# Altium integrated library Linear Technology Operational Amplifiers (LT2000-LT6000).IntLib: 1710 symbols (part 54 of 75)
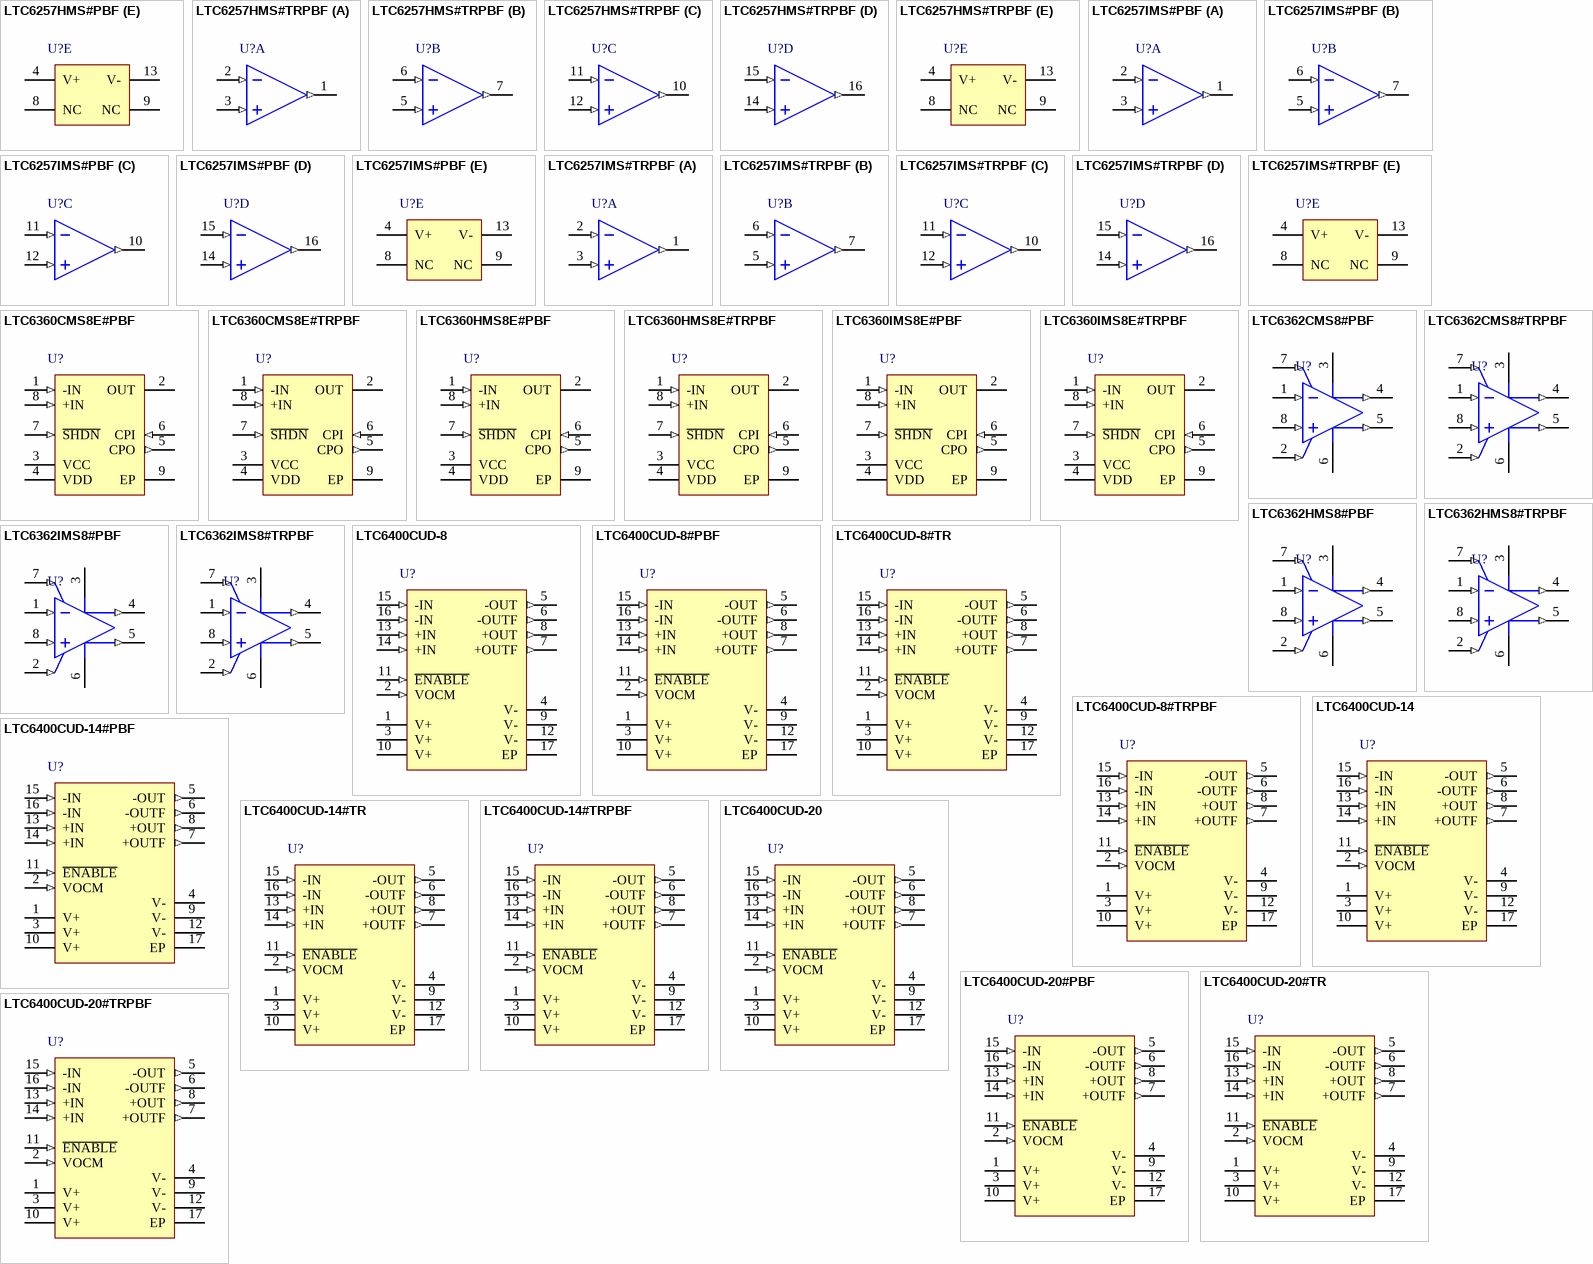
[diagram p133: symbols LTC6257HMS#PBF to LTC6400CUD-20#TRPBF]

## LTC6257HMS#TRPBF
designator U?
Quad Channel, Power Efficient Operational Amplifier, RRIO, 6.5 MHz Typical GBW, 1.8 V/us Typical SR, 1.8 to 5.25 V, 16-Pin SOP (MS16), High Temperature / Automotive, Pb-Free, Reel; Linear Technology Part Number: LTC6257; Manufacturer: Linear Technology; PartNumber: LTC6257HMS#TRPBF; Channels (#): 4; GBW (MHz) Typical: 6.5; Is (mA) Typical: 0.065; SR (V/us) Typical: 1.8; Vos (mV) Typical: 0.1; Vs Max (V): 5.25; DatasheetVersion: Rev. B; PackageVersion: Rev Ø; PackageReference: LT-MS-16; PackageDescription: 16-Lead Plastic MSOP, Body 4.04 x 3.00 mm, Pitch 0.50 mm; Supplier 1: Digi-Key; Supplier Part Number 1: LTC6257HMS#TRPBF-ND; Packing: Reel; RoHS: Pb-Free; Type: VFB; Vs Min (V): 1.8; Mounting Technology: Surface Mount; ComponentLink1Description: Manufacturer URL; ComponentLink1URL: http://www.linear.com/; ComponentLink2Description: Datasheet; ComponentLink2URL: http://cds.linear.com/docs/en/datasheet/625567fb.pdf; ComponentLink3Description: Package Specification; ComponentLink3URL: http://cds.linear.com/docs/en/packaging/MSOP_16_05-08-1669.pdf
footprint LT-MS-16_N (SOP, 16-Leads, Body 4.04x3.00mm, Pitch 0.50mm, IPC Medium Density)
footprint LT-MS-16_L (SOP, 16-Leads, Body 4.04x3.00mm, Pitch 0.50mm, IPC High Density)
footprint LT-MS-16_M (SOP, 16-Leads, Body 4.04x3.00mm, Pitch 0.50mm, IPC Low Density)
part A pins: 1 OUT A (out), 2 IN- A (in), 3 IN+ A (in)
part B pins: 5 IN+ B (in), 6 IN- B (in), 7 OUT B (out)
part C pins: 10 OUT C (out), 11 IN- C (in), 12 IN+ C (in)
part D pins: 14 IN+ D (in), 15 IN- D (in), 16 OUT D (out)
part E pins: 4 V+ (power), 8 NC, 9 NC, 13 V- (power)

## LTC6257IMS#PBF
designator U?
Quad Channel, Power Efficient Operational Amplifier, RRIO, 6.5 MHz Typical GBW, 1.8 V/us Typical SR, 1.8 to 5.25 V, 16-Pin SOP (MS16), Industrial, Pb-Free; Linear Technology Part Number: LTC6257; Manufacturer: Linear Technology; PartNumber: LTC6257IMS#PBF; Channels (#): 4; GBW (MHz) Typical: 6.5; Is (mA) Typical: 0.065; SR (V/us) Typical: 1.8; Vos (mV) Typical: 0.1; Vs Max (V): 5.25; DatasheetVersion: Rev. B; PackageVersion: Rev Ø; PackageReference: LT-MS-16; PackageDescription: 16-Lead Plastic MSOP, Body 4.04 x 3.00 mm, Pitch 0.50 mm; Supplier 1: Digi-Key; Supplier Part Number 1: LTC6257IMS#PBF-ND; RoHS: Pb-Free; Type: VFB; Vs Min (V): 1.8; Mounting Technology: Surface Mount; ComponentLink1Description: Manufacturer URL; ComponentLink1URL: http://www.linear.com/; ComponentLink2Description: Datasheet; ComponentLink2URL: http://cds.linear.com/docs/en/datasheet/625567fb.pdf; ComponentLink3Description: Package Specification; ComponentLink3URL: http://cds.linear.com/docs/en/packaging/MSOP_16_05-08-1669.pdf
footprint LT-MS-16_N (SOP, 16-Leads, Body 4.04x3.00mm, Pitch 0.50mm, IPC Medium Density)
footprint LT-MS-16_L (SOP, 16-Leads, Body 4.04x3.00mm, Pitch 0.50mm, IPC High Density)
footprint LT-MS-16_M (SOP, 16-Leads, Body 4.04x3.00mm, Pitch 0.50mm, IPC Low Density)
part A pins: 1 OUT A (out), 2 IN- A (in), 3 IN+ A (in)
part B pins: 5 IN+ B (in), 6 IN- B (in), 7 OUT B (out)
part C pins: 10 OUT C (out), 11 IN- C (in), 12 IN+ C (in)
part D pins: 14 IN+ D (in), 15 IN- D (in), 16 OUT D (out)
part E pins: 4 V+ (power), 8 NC, 9 NC, 13 V- (power)

## LTC6257IMS#TRPBF
designator U?
Quad Channel, Power Efficient Operational Amplifier, RRIO, 6.5 MHz Typical GBW, 1.8 V/us Typical SR, 1.8 to 5.25 V, 16-Pin SOP (MS16), Industrial, Pb-Free, Reel; Linear Technology Part Number: LTC6257; Manufacturer: Linear Technology; PartNumber: LTC6257IMS#TRPBF; Channels (#): 4; GBW (MHz) Typical: 6.5; Is (mA) Typical: 0.065; SR (V/us) Typical: 1.8; Vos (mV) Typical: 0.1; Vs Max (V): 5.25; DatasheetVersion: Rev. B; PackageVersion: Rev Ø; PackageReference: LT-MS-16; PackageDescription: 16-Lead Plastic MSOP, Body 4.04 x 3.00 mm, Pitch 0.50 mm; Supplier 1: Digi-Key; Supplier Part Number 1: LTC6257IMS#TRPBF-ND; Supplier 2: Newark; Supplier Part Number 2: 78R8404; Packing: Reel; RoHS: Pb-Free; Type: VFB; Vs Min (V): 1.8; Mounting Technology: Surface Mount; ComponentLink1Description: Manufacturer URL; ComponentLink1URL: http://www.linear.com/; ComponentLink2Description: Datasheet; ComponentLink2URL: http://cds.linear.com/docs/en/datasheet/625567fb.pdf; ComponentLink3Description: Package Specification; ComponentLink3URL: http://cds.linear.com/docs/en/packaging/MSOP_16_05-08-1669.pdf
footprint LT-MS-16_N (SOP, 16-Leads, Body 4.04x3.00mm, Pitch 0.50mm, IPC Medium Density)
footprint LT-MS-16_L (SOP, 16-Leads, Body 4.04x3.00mm, Pitch 0.50mm, IPC High Density)
footprint LT-MS-16_M (SOP, 16-Leads, Body 4.04x3.00mm, Pitch 0.50mm, IPC Low Density)
part A pins: 1 OUT A (out), 2 IN- A (in), 3 IN+ A (in)
part B pins: 5 IN+ B (in), 6 IN- B (in), 7 OUT B (out)
part C pins: 10 OUT C (out), 11 IN- C (in), 12 IN+ C (in)
part D pins: 14 IN+ D (in), 15 IN- D (in), 16 OUT D (out)
part E pins: 4 V+ (power), 8 NC, 9 NC, 13 V- (power)

## LTC6360CMS8E#PBF
designator U?
Single Channel, Very Low Noise Single-Ended SAR ADC Driver with True Zero Output, 1000 MHz Typical GBW, 135 V/us Typical SR, 5.25 to 4.75 V, 8-Pin SOP (MS8E-8), Commercial, Pb-Free; Linear Technology Part Number: LTC6360; Manufacturer: Linear Technology; PartNumber: LTC6360CMS8E#PBF; Channels (#): 1; GBW (MHz) Typical: 1000; Is (mA) Typical: 13.6; SR (V/us) Typical: 135; Vos (mV) Typical: 30; Vs Max (V): 4.75; Vs Min (V): 5.25; PackageVersion: Rev J; PackageReference: LT-MS8E-8-EDP; PackageDescription: 8-Lead Plastic MSOP, Body 3.00 x 3.00 mm. Pitch 0.65 mm; Supplier 1: Digi-Key; Supplier Part Number 1: LTC6360CMS8E#PBF-ND; Supplier 2: Farnell; Supplier Part Number 2: 2033981; Supplier 3: Newark; Supplier Part Number 3: 59T5738; RoHS: Pb-Free; Type: VFB; Mounting Technology: Surface Mount; ComponentLink1Description: Manufacturer URL; ComponentLink1URL: http://www.linear.com/; ComponentLink2Description: Datasheet; ComponentLink2URL: http://cds.linear.com/docs/en/datasheet/6360f.pdf; ComponentLink3Description: Package Specification; ComponentLink3URL: http://cds.linear.com/docs/en/packaging/05081662_J_MS8E.pdf
footprint LT-MS8E-8-EDP_N (SOP, 8-Leads, Body 3x3mm, Pitch 0.65mm, Thermal Pad 1.88x1.68mm, IPC Medium Density)
footprint LT-MS8E-8-EDP_L (SOP, 8-Leads, Body 3x3mm, Pitch 0.65mm, Thermal Pad 1.88x1.68mm, IPC High Density)
footprint LT-MS8E-8-EDP_M (SOP, 8-Leads, Body 3x3mm, Pitch 0.65mm, Thermal Pad 1.88x1.68mm, IPC Low Density)
pins: 1 -IN (in) "Inverting Amplifier Input.", 2 OUT (oc) "Output of Amplifier", 3 VCC (power) "Analog Power Supply. Normally connected to a 5V supply.", 4 VDD (power) "Digital Power Supply. Normally connected to VCC", 5 CPO (out) "Output of Charge Pump. This pin is internally biased at -0.6V below GND", 6 CPI (in) "Input for Amplifier Negative Rail. Normally connected to CPO", 7 ~{SHDN} (in) "Shutdown Pin. If tied high or left floating, the part is enabled. If tied low, the part is disabled and draws less than 350uA of supply current", 8 +IN (in) "Noninverting Amplifier Input. Provides a high impedance input", 9 EP (power) "Ground Pin. Normally connected to ground."

## LTC6360CMS8E#TRPBF
designator U?
Single Channel, Very Low Noise Single-Ended SAR ADC Driver with True Zero Output, 1000 MHz Typical GBW, 135 V/us Typical SR, 5.25 to 4.75 V, 8-Pin SOP (MS8E-8), Commercial, Pb-Free, Reel; Linear Technology Part Number: LTC6360; Manufacturer: Linear Technology; PartNumber: LTC6360CMS8E#TRPBF; Channels (#): 1; GBW (MHz) Typical: 1000; Is (mA) Typical: 13.6; SR (V/us) Typical: 135; Vos (mV) Typical: 30; Vs Max (V): 4.75; Vs Min (V): 5.25; PackageVersion: Rev J; PackageReference: LT-MS8E-8-EDP; PackageDescription: 8-Lead Plastic MSOP, Body 3.00 x 3.00 mm. Pitch 0.65 mm; Supplier 1: Digi-Key; Supplier Part Number 1: LTC6360CMS8E#TRPBF-ND; Supplier 2: Newark; Supplier Part Number 2: 59T5739; Packing: Reel; RoHS: Pb-Free; Type: VFB; Mounting Technology: Surface Mount; ComponentLink1Description: Manufacturer URL; ComponentLink1URL: http://www.linear.com/; ComponentLink2Description: Datasheet; ComponentLink2URL: http://cds.linear.com/docs/en/datasheet/6360f.pdf; ComponentLink3Description: Package Specification; ComponentLink3URL: http://cds.linear.com/docs/en/packaging/05081662_J_MS8E.pdf
footprint LT-MS8E-8-EDP_N (SOP, 8-Leads, Body 3x3mm, Pitch 0.65mm, Thermal Pad 1.88x1.68mm, IPC Medium Density)
footprint LT-MS8E-8-EDP_L (SOP, 8-Leads, Body 3x3mm, Pitch 0.65mm, Thermal Pad 1.88x1.68mm, IPC High Density)
footprint LT-MS8E-8-EDP_M (SOP, 8-Leads, Body 3x3mm, Pitch 0.65mm, Thermal Pad 1.88x1.68mm, IPC Low Density)
pins: 1 -IN (in) "Inverting Amplifier Input.", 2 OUT (oc) "Output of Amplifier", 3 VCC (power) "Analog Power Supply. Normally connected to a 5V supply.", 4 VDD (power) "Digital Power Supply. Normally connected to VCC", 5 CPO (out) "Output of Charge Pump. This pin is internally biased at -0.6V below GND", 6 CPI (in) "Input for Amplifier Negative Rail. Normally connected to CPO", 7 ~{SHDN} (in) "Shutdown Pin. If tied high or left floating, the part is enabled. If tied low, the part is disabled and draws less than 350uA of supply current", 8 +IN (in) "Noninverting Amplifier Input. Provides a high impedance input", 9 EP (power) "Ground Pin. Normally connected to ground."

## LTC6360HMS8E#PBF
designator U?
Single Channel, Very Low Noise Single-Ended SAR ADC Driver with True Zero Output, 1000 MHz Typical GBW, 135 V/us Typical SR, 5.25 to 4.75 V, 8-Pin SOP (MS8E-8), High Temperature / Automotive, Pb-Free; Linear Technology Part Number: LTC6360; Manufacturer: Linear Technology; PartNumber: LTC6360HMS8E#PBF; Channels (#): 1; GBW (MHz) Typical: 1000; Is (mA) Typical: 13.6; SR (V/us) Typical: 135; Vos (mV) Typical: 30; Vs Max (V): 4.75; Vs Min (V): 5.25; PackageVersion: Rev J; PackageReference: LT-MS8E-8-EDP; PackageDescription: 8-Lead Plastic MSOP, Body 3.00 x 3.00 mm. Pitch 0.65 mm; Supplier 1: Digi-Key; Supplier Part Number 1: LTC6360HMS8E#PBF-ND; Supplier 2: Newark; Supplier Part Number 2: 59T5742; RoHS: Pb-Free; Type: VFB; Mounting Technology: Surface Mount; ComponentLink1Description: Manufacturer URL; ComponentLink1URL: http://www.linear.com/; ComponentLink2Description: Datasheet; ComponentLink2URL: http://cds.linear.com/docs/en/datasheet/6360f.pdf; ComponentLink3Description: Package Specification; ComponentLink3URL: http://cds.linear.com/docs/en/packaging/05081662_J_MS8E.pdf
footprint LT-MS8E-8-EDP_N (SOP, 8-Leads, Body 3x3mm, Pitch 0.65mm, Thermal Pad 1.88x1.68mm, IPC Medium Density)
footprint LT-MS8E-8-EDP_L (SOP, 8-Leads, Body 3x3mm, Pitch 0.65mm, Thermal Pad 1.88x1.68mm, IPC High Density)
footprint LT-MS8E-8-EDP_M (SOP, 8-Leads, Body 3x3mm, Pitch 0.65mm, Thermal Pad 1.88x1.68mm, IPC Low Density)
pins: 1 -IN (in) "Inverting Amplifier Input.", 2 OUT (oc) "Output of Amplifier", 3 VCC (power) "Analog Power Supply. Normally connected to a 5V supply.", 4 VDD (power) "Digital Power Supply. Normally connected to VCC", 5 CPO (out) "Output of Charge Pump. This pin is internally biased at -0.6V below GND", 6 CPI (in) "Input for Amplifier Negative Rail. Normally connected to CPO", 7 ~{SHDN} (in) "Shutdown Pin. If tied high or left floating, the part is enabled. If tied low, the part is disabled and draws less than 350uA of supply current", 8 +IN (in) "Noninverting Amplifier Input. Provides a high impedance input", 9 EP (power) "Ground Pin. Normally connected to ground."

## LTC6360HMS8E#TRPBF
designator U?
Single Channel, Very Low Noise Single-Ended SAR ADC Driver with True Zero Output, 1000 MHz Typical GBW, 135 V/us Typical SR, 5.25 to 4.75 V, 8-Pin SOP (MS8E-8), High Temperature / Automotive, Pb-Free, Reel; Linear Technology Part Number: LTC6360; Manufacturer: Linear Technology; PartNumber: LTC6360HMS8E#TRPBF; Channels (#): 1; GBW (MHz) Typical: 1000; Is (mA) Typical: 13.6; SR (V/us) Typical: 135; Vos (mV) Typical: 30; Vs Max (V): 4.75; Vs Min (V): 5.25; PackageVersion: Rev J; PackageReference: LT-MS8E-8-EDP; PackageDescription: 8-Lead Plastic MSOP, Body 3.00 x 3.00 mm. Pitch 0.65 mm; Supplier 1: Digi-Key; Supplier Part Number 1: LTC6360HMS8E#TRPBF-ND; Supplier 2: Newark; Supplier Part Number 2: 59T5743; Packing: Reel; RoHS: Pb-Free; Type: VFB; Mounting Technology: Surface Mount; ComponentLink1Description: Manufacturer URL; ComponentLink1URL: http://www.linear.com/; ComponentLink2Description: Datasheet; ComponentLink2URL: http://cds.linear.com/docs/en/datasheet/6360f.pdf; ComponentLink3Description: Package Specification; ComponentLink3URL: http://cds.linear.com/docs/en/packaging/05081662_J_MS8E.pdf
footprint LT-MS8E-8-EDP_N (SOP, 8-Leads, Body 3x3mm, Pitch 0.65mm, Thermal Pad 1.88x1.68mm, IPC Medium Density)
footprint LT-MS8E-8-EDP_L (SOP, 8-Leads, Body 3x3mm, Pitch 0.65mm, Thermal Pad 1.88x1.68mm, IPC High Density)
footprint LT-MS8E-8-EDP_M (SOP, 8-Leads, Body 3x3mm, Pitch 0.65mm, Thermal Pad 1.88x1.68mm, IPC Low Density)
pins: 1 -IN (in) "Inverting Amplifier Input.", 2 OUT (oc) "Output of Amplifier", 3 VCC (power) "Analog Power Supply. Normally connected to a 5V supply.", 4 VDD (power) "Digital Power Supply. Normally connected to VCC", 5 CPO (out) "Output of Charge Pump. This pin is internally biased at -0.6V below GND", 6 CPI (in) "Input for Amplifier Negative Rail. Normally connected to CPO", 7 ~{SHDN} (in) "Shutdown Pin. If tied high or left floating, the part is enabled. If tied low, the part is disabled and draws less than 350uA of supply current", 8 +IN (in) "Noninverting Amplifier Input. Provides a high impedance input", 9 EP (power) "Ground Pin. Normally connected to ground."

## LTC6360IMS8E#PBF
designator U?
Single Channel, Very Low Noise Single-Ended SAR ADC Driver with True Zero Output, 1000 MHz Typical GBW, 135 V/us Typical SR, 5.25 to 4.75 V, 8-Pin SOP (MS8E-8), Industrial, Pb-Free; Linear Technology Part Number: LTC6360; Manufacturer: Linear Technology; PartNumber: LTC6360IMS8E#PBF; Channels (#): 1; GBW (MHz) Typical: 1000; Is (mA) Typical: 13.6; SR (V/us) Typical: 135; Vos (mV) Typical: 30; Vs Max (V): 4.75; Vs Min (V): 5.25; PackageVersion: Rev J; PackageReference: LT-MS8E-8-EDP; PackageDescription: 8-Lead Plastic MSOP, Body 3.00 x 3.00 mm. Pitch 0.65 mm; Supplier 1: Digi-Key; Supplier Part Number 1: LTC6360IMS8E#PBF-ND; Supplier 2: Newark; Supplier Part Number 2: 59T5746; RoHS: Pb-Free; Type: VFB; Mounting Technology: Surface Mount; ComponentLink1Description: Manufacturer URL; ComponentLink1URL: http://www.linear.com/; ComponentLink2Description: Datasheet; ComponentLink2URL: http://cds.linear.com/docs/en/datasheet/6360f.pdf; ComponentLink3Description: Package Specification; ComponentLink3URL: http://cds.linear.com/docs/en/packaging/05081662_J_MS8E.pdf
footprint LT-MS8E-8-EDP_N (SOP, 8-Leads, Body 3x3mm, Pitch 0.65mm, Thermal Pad 1.88x1.68mm, IPC Medium Density)
footprint LT-MS8E-8-EDP_L (SOP, 8-Leads, Body 3x3mm, Pitch 0.65mm, Thermal Pad 1.88x1.68mm, IPC High Density)
footprint LT-MS8E-8-EDP_M (SOP, 8-Leads, Body 3x3mm, Pitch 0.65mm, Thermal Pad 1.88x1.68mm, IPC Low Density)
pins: 1 -IN (in) "Inverting Amplifier Input.", 2 OUT (oc) "Output of Amplifier", 3 VCC (power) "Analog Power Supply. Normally connected to a 5V supply.", 4 VDD (power) "Digital Power Supply. Normally connected to VCC", 5 CPO (out) "Output of Charge Pump. This pin is internally biased at -0.6V below GND", 6 CPI (in) "Input for Amplifier Negative Rail. Normally connected to CPO", 7 ~{SHDN} (in) "Shutdown Pin. If tied high or left floating, the part is enabled. If tied low, the part is disabled and draws less than 350uA of supply current", 8 +IN (in) "Noninverting Amplifier Input. Provides a high impedance input", 9 EP (power) "Ground Pin. Normally connected to ground."

## LTC6360IMS8E#TRPBF
designator U?
Single Channel, Very Low Noise Single-Ended SAR ADC Driver with True Zero Output, 1000 MHz Typical GBW, 135 V/us Typical SR, 5.25 to 4.75 V, 8-Pin SOP (MS8E-8), Industrial, Pb-Free, Reel; Linear Technology Part Number: LTC6360; Manufacturer: Linear Technology; PartNumber: LTC6360IMS8E#TRPBF; Channels (#): 1; GBW (MHz) Typical: 1000; Is (mA) Typical: 13.6; SR (V/us) Typical: 135; Vos (mV) Typical: 30; Vs Max (V): 4.75; Vs Min (V): 5.25; PackageVersion: Rev J; PackageReference: LT-MS8E-8-EDP; PackageDescription: 8-Lead Plastic MSOP, Body 3.00 x 3.00 mm. Pitch 0.65 mm; Supplier 1: Digi-Key; Supplier Part Number 1: LTC6360IMS8E#TRPBF-ND; Supplier 2: Newark; Supplier Part Number 2: 59T5747; Packing: Reel; RoHS: Pb-Free; Type: VFB; Mounting Technology: Surface Mount; ComponentLink1Description: Manufacturer URL; ComponentLink1URL: http://www.linear.com/; ComponentLink2Description: Datasheet; ComponentLink2URL: http://cds.linear.com/docs/en/datasheet/6360f.pdf; ComponentLink3Description: Package Specification; ComponentLink3URL: http://cds.linear.com/docs/en/packaging/05081662_J_MS8E.pdf
footprint LT-MS8E-8-EDP_N (SOP, 8-Leads, Body 3x3mm, Pitch 0.65mm, Thermal Pad 1.88x1.68mm, IPC Medium Density)
footprint LT-MS8E-8-EDP_L (SOP, 8-Leads, Body 3x3mm, Pitch 0.65mm, Thermal Pad 1.88x1.68mm, IPC High Density)
footprint LT-MS8E-8-EDP_M (SOP, 8-Leads, Body 3x3mm, Pitch 0.65mm, Thermal Pad 1.88x1.68mm, IPC Low Density)
pins: 1 -IN (in) "Inverting Amplifier Input.", 2 OUT (oc) "Output of Amplifier", 3 VCC (power) "Analog Power Supply. Normally connected to a 5V supply.", 4 VDD (power) "Digital Power Supply. Normally connected to VCC", 5 CPO (out) "Output of Charge Pump. This pin is internally biased at -0.6V below GND", 6 CPI (in) "Input for Amplifier Negative Rail. Normally connected to CPO", 7 ~{SHDN} (in) "Shutdown Pin. If tied high or left floating, the part is enabled. If tied low, the part is disabled and draws less than 350uA of supply current", 8 +IN (in) "Noninverting Amplifier Input. Provides a high impedance input", 9 EP (power) "Ground Pin. Normally connected to ground."

## LTC6362CMS8#PBF
designator U?
Single Channel, Precision, Low Power Differential Operational Amplifier / SAR ADC Driver, RRIO, 180 MHz Typical GBW, 45 V/us Typical SR, 2.8 to 5.25 V, 8-Pin SOP (MS8-8), Commercial, Pb-Free; Linear Technology Part Number: LTC6362; Manufacturer: Linear Technology; PartNumber: LTC6362CMS8#PBF; Channels (#): 1; GBW (MHz) Typical: 180; Is (mA) Typical: 0.9; SR (V/us) Typical: 45; Vos (mV) Typical: 0.05; Vs Max (V): 5.25; Vs Min (V): 2.8; DatasheetVersion: Rev. A; PackageVersion: Rev G; PackageReference: LT-MS8-8; PackageDescription: 8-Lead Plastic Small Outline, Body 3.9 x 4.9 mm, Pitch 1.27 mm; Supplier 1: Digi-Key; Supplier Part Number 1: LTC6362CMS8#PBF-ND; Supplier 2: Farnell; Supplier Part Number 2: 2097967; Supplier 3: Newark; Supplier Part Number 3: 93T2025; RoHS: Pb-Free; Type: DIFF; Mounting Technology: Surface Mount; ComponentLink1Description: Manufacturer URL; ComponentLink1URL: http://www.linear.com/; ComponentLink2Description: Datasheet; ComponentLink2URL: http://cds.linear.com/docs/en/datasheet/6362fa.pdf; ComponentLink3Description: Package Specification; ComponentLink3URL: http://cds.linear.com/docs/en/packaging/05081610_G_SO8.pdf
footprint LT-MS8-8_N (SOP, 8-Leads, Body 3x3mm, Pitch 0.65mm, IPC Medium Density)
footprint LT-MS8-8_L (SOP, 8-Leads, Body 3x3mm, Pitch 0.65mm, IPC High Density)
footprint LT-MS8-8_M (SOP, 8-Leads, Body 3x3mm, Pitch 0.65mm, IPC Low Density)
pins: 1 -IN (in) "Inverting Input of Amplifier. Valid input range is from V- to V+.", 2 VOCM (in) "Output Common Mode Reference Voltage. The voltage on this pin sets the output common mode voltage level. If left floating, an internal resistor divider develops a default voltage of 2.5V with a 5V supply.", 3 V+ (power) "Positive Power Supply. Operational supply range is 2.8V to 5.25V when V- = 0V", 4 +OUT (out) "Positive Output Pin. Output capable of swinging rail-to-rail.", 5 -OUT (out) "Negative Output Pin. Output capable of swinging rail-to-rail.", 6 V- (power) "Negative Power Supply, Typically 0V. Negative supply can be negative as long as 2.8V =< (V+ - V-) =< 5.25V still holds.", 7 ~{SHDN} (in) "When S\H\D\N\ is floating or directly tied to V+ the LTC6362 is in the normal (active) operating mode. When the S\H\D\N\ pin is connected to V-, the part is disabled and draws approximately 70uA of supply current.", 8 +IN (in) "Noninverting Input of Amplifier. Valid input range is from V- to V+."

## LTC6362CMS8#TRPBF
designator U?
Single Channel, Precision, Low Power Differential Operational Amplifier / SAR ADC Driver, RRIO, 180 MHz Typical GBW, 45 V/us Typical SR, 2.8 to 5.25 V, 8-Pin SOP (MS8-8), Commercial, Pb-Free, Reel; Linear Technology Part Number: LTC6362; Manufacturer: Linear Technology; PartNumber: LTC6362CMS8#TRPBF; Channels (#): 1; GBW (MHz) Typical: 180; Is (mA) Typical: 0.9; SR (V/us) Typical: 45; Vos (mV) Typical: 0.05; Vs Max (V): 5.25; Vs Min (V): 2.8; DatasheetVersion: Rev. A; PackageVersion: Rev G; PackageReference: LT-MS8-8; PackageDescription: 8-Lead Plastic Small Outline, Body 3.9 x 4.9 mm, Pitch 1.27 mm; Supplier 1: Digi-Key; Supplier Part Number 1: LTC6362CMS8#TRPBF-ND; Supplier 2: Newark; Supplier Part Number 2: 94T1324; Packing: Reel; RoHS: Pb-Free; Type: DIFF; Mounting Technology: Surface Mount; ComponentLink1Description: Manufacturer URL; ComponentLink1URL: http://www.linear.com/; ComponentLink2Description: Datasheet; ComponentLink2URL: http://cds.linear.com/docs/en/datasheet/6362fa.pdf; ComponentLink3Description: Package Specification; ComponentLink3URL: http://cds.linear.com/docs/en/packaging/05081610_G_SO8.pdf
footprint LT-MS8-8_N (SOP, 8-Leads, Body 3x3mm, Pitch 0.65mm, IPC Medium Density)
footprint LT-MS8-8_L (SOP, 8-Leads, Body 3x3mm, Pitch 0.65mm, IPC High Density)
footprint LT-MS8-8_M (SOP, 8-Leads, Body 3x3mm, Pitch 0.65mm, IPC Low Density)
pins: 1 -IN (in) "Inverting Input of Amplifier. Valid input range is from V- to V+.", 2 VOCM (in) "Output Common Mode Reference Voltage. The voltage on this pin sets the output common mode voltage level. If left floating, an internal resistor divider develops a default voltage of 2.5V with a 5V supply.", 3 V+ (power) "Positive Power Supply. Operational supply range is 2.8V to 5.25V when V- = 0V", 4 +OUT (out) "Positive Output Pin. Output capable of swinging rail-to-rail.", 5 -OUT (out) "Negative Output Pin. Output capable of swinging rail-to-rail.", 6 V- (power) "Negative Power Supply, Typically 0V. Negative supply can be negative as long as 2.8V =< (V+ - V-) =< 5.25V still holds.", 7 ~{SHDN} (in) "When S\H\D\N\ is floating or directly tied to V+ the LTC6362 is in the normal (active) operating mode. When the S\H\D\N\ pin is connected to V-, the part is disabled and draws approximately 70uA of supply current.", 8 +IN (in) "Noninverting Input of Amplifier. Valid input range is from V- to V+."

## LTC6362HMS8#PBF
designator U?
Single Channel, Precision, Low Power Differential Operational Amplifier / SAR ADC Driver, RRIO, 180 MHz Typical GBW, 45 V/us Typical SR, 2.8 to 5.25 V, 8-Pin SOP (MS8-8), High Temperature / Automotive, Pb-Free; Linear Technology Part Number: LTC6362; Manufacturer: Linear Technology; PartNumber: LTC6362HMS8#PBF; Channels (#): 1; GBW (MHz) Typical: 180; Is (mA) Typical: 0.9; SR (V/us) Typical: 45; Vos (mV) Typical: 0.05; Vs Max (V): 5.25; Vs Min (V): 2.8; DatasheetVersion: Rev. A; PackageVersion: Rev G; PackageReference: LT-MS8-8; PackageDescription: 8-Lead Plastic Small Outline, Body 3.9 x 4.9 mm, Pitch 1.27 mm; Supplier 1: Digi-Key; Supplier Part Number 1: LTC6362HMS8#PBF-ND; Supplier 2: Farnell; Supplier Part Number 2: 2097968; Supplier 3: Newark; Supplier Part Number 3: 93T2026; RoHS: Pb-Free; Type: DIFF; Mounting Technology: Surface Mount; ComponentLink1Description: Manufacturer URL; ComponentLink1URL: http://www.linear.com/; ComponentLink2Description: Datasheet; ComponentLink2URL: http://cds.linear.com/docs/en/datasheet/6362fa.pdf; ComponentLink3Description: Package Specification; ComponentLink3URL: http://cds.linear.com/docs/en/packaging/05081610_G_SO8.pdf
footprint LT-MS8-8_N (SOP, 8-Leads, Body 3x3mm, Pitch 0.65mm, IPC Medium Density)
footprint LT-MS8-8_L (SOP, 8-Leads, Body 3x3mm, Pitch 0.65mm, IPC High Density)
footprint LT-MS8-8_M (SOP, 8-Leads, Body 3x3mm, Pitch 0.65mm, IPC Low Density)
pins: 1 -IN (in) "Inverting Input of Amplifier. Valid input range is from V- to V+.", 2 VOCM (in) "Output Common Mode Reference Voltage. The voltage on this pin sets the output common mode voltage level. If left floating, an internal resistor divider develops a default voltage of 2.5V with a 5V supply.", 3 V+ (power) "Positive Power Supply. Operational supply range is 2.8V to 5.25V when V- = 0V", 4 +OUT (out) "Positive Output Pin. Output capable of swinging rail-to-rail.", 5 -OUT (out) "Negative Output Pin. Output capable of swinging rail-to-rail.", 6 V- (power) "Negative Power Supply, Typically 0V. Negative supply can be negative as long as 2.8V =< (V+ - V-) =< 5.25V still holds.", 7 ~{SHDN} (in) "When S\H\D\N\ is floating or directly tied to V+ the LTC6362 is in the normal (active) operating mode. When the S\H\D\N\ pin is connected to V-, the part is disabled and draws approximately 70uA of supply current.", 8 +IN (in) "Noninverting Input of Amplifier. Valid input range is from V- to V+."

## LTC6362HMS8#TRPBF
designator U?
Single Channel, Precision, Low Power Differential Operational Amplifier / SAR ADC Driver, RRIO, 180 MHz Typical GBW, 45 V/us Typical SR, 2.8 to 5.25 V, 8-Pin SOP (MS8-8), High Temperature / Automotive, Pb-Free, Reel; Linear Technology Part Number: LTC6362; Manufacturer: Linear Technology; PartNumber: LTC6362HMS8#TRPBF; Channels (#): 1; GBW (MHz) Typical: 180; Is (mA) Typical: 0.9; SR (V/us) Typical: 45; Vos (mV) Typical: 0.05; Vs Max (V): 5.25; Vs Min (V): 2.8; DatasheetVersion: Rev. A; PackageVersion: Rev G; PackageReference: LT-MS8-8; PackageDescription: 8-Lead Plastic Small Outline, Body 3.9 x 4.9 mm, Pitch 1.27 mm; Supplier 1: Digi-Key; Supplier Part Number 1: LTC6362HMS8#TRPBF-ND; Supplier 2: Newark; Supplier Part Number 2: 94T1325; Packing: Reel; RoHS: Pb-Free; Type: DIFF; Mounting Technology: Surface Mount; ComponentLink1Description: Manufacturer URL; ComponentLink1URL: http://www.linear.com/; ComponentLink2Description: Datasheet; ComponentLink2URL: http://cds.linear.com/docs/en/datasheet/6362fa.pdf; ComponentLink3Description: Package Specification; ComponentLink3URL: http://cds.linear.com/docs/en/packaging/05081610_G_SO8.pdf
footprint LT-MS8-8_N (SOP, 8-Leads, Body 3x3mm, Pitch 0.65mm, IPC Medium Density)
footprint LT-MS8-8_L (SOP, 8-Leads, Body 3x3mm, Pitch 0.65mm, IPC High Density)
footprint LT-MS8-8_M (SOP, 8-Leads, Body 3x3mm, Pitch 0.65mm, IPC Low Density)
pins: 1 -IN (in) "Inverting Input of Amplifier. Valid input range is from V- to V+.", 2 VOCM (in) "Output Common Mode Reference Voltage. The voltage on this pin sets the output common mode voltage level. If left floating, an internal resistor divider develops a default voltage of 2.5V with a 5V supply.", 3 V+ (power) "Positive Power Supply. Operational supply range is 2.8V to 5.25V when V- = 0V", 4 +OUT (out) "Positive Output Pin. Output capable of swinging rail-to-rail.", 5 -OUT (out) "Negative Output Pin. Output capable of swinging rail-to-rail.", 6 V- (power) "Negative Power Supply, Typically 0V. Negative supply can be negative as long as 2.8V =< (V+ - V-) =< 5.25V still holds.", 7 ~{SHDN} (in) "When S\H\D\N\ is floating or directly tied to V+ the LTC6362 is in the normal (active) operating mode. When the S\H\D\N\ pin is connected to V-, the part is disabled and draws approximately 70uA of supply current.", 8 +IN (in) "Noninverting Input of Amplifier. Valid input range is from V- to V+."

## LTC6362IMS8#PBF
designator U?
Single Channel, Precision, Low Power Differential Operational Amplifier / SAR ADC Driver, RRIO, 180 MHz Typical GBW, 45 V/us Typical SR, 2.8 to 5.25 V, 8-Pin SOP (MS8-8), Industrial, Pb-Free; Linear Technology Part Number: LTC6362; Manufacturer: Linear Technology; PartNumber: LTC6362IMS8#PBF; Channels (#): 1; GBW (MHz) Typical: 180; Is (mA) Typical: 0.9; SR (V/us) Typical: 45; Vos (mV) Typical: 0.05; Vs Max (V): 5.25; Vs Min (V): 2.8; DatasheetVersion: Rev. A; PackageVersion: Rev G; PackageReference: LT-MS8-8; PackageDescription: 8-Lead Plastic Small Outline, Body 3.9 x 4.9 mm, Pitch 1.27 mm; Supplier 1: Digi-Key; Supplier Part Number 1: LTC6362IMS8#PBF-ND; Supplier 2: Farnell; Supplier Part Number 2: 2097969; Supplier 3: Newark; Supplier Part Number 3: 93T2027; RoHS: Pb-Free; Type: DIFF; Mounting Technology: Surface Mount; ComponentLink1Description: Manufacturer URL; ComponentLink1URL: http://www.linear.com/; ComponentLink2Description: Datasheet; ComponentLink2URL: http://cds.linear.com/docs/en/datasheet/6362fa.pdf; ComponentLink3Description: Package Specification; ComponentLink3URL: http://cds.linear.com/docs/en/packaging/05081610_G_SO8.pdf
footprint LT-MS8-8_N (SOP, 8-Leads, Body 3x3mm, Pitch 0.65mm, IPC Medium Density)
footprint LT-MS8-8_L (SOP, 8-Leads, Body 3x3mm, Pitch 0.65mm, IPC High Density)
footprint LT-MS8-8_M (SOP, 8-Leads, Body 3x3mm, Pitch 0.65mm, IPC Low Density)
pins: 1 -IN (in) "Inverting Input of Amplifier. Valid input range is from V- to V+.", 2 VOCM (in) "Output Common Mode Reference Voltage. The voltage on this pin sets the output common mode voltage level. If left floating, an internal resistor divider develops a default voltage of 2.5V with a 5V supply.", 3 V+ (power) "Positive Power Supply. Operational supply range is 2.8V to 5.25V when V- = 0V", 4 +OUT (out) "Positive Output Pin. Output capable of swinging rail-to-rail.", 5 -OUT (out) "Negative Output Pin. Output capable of swinging rail-to-rail.", 6 V- (power) "Negative Power Supply, Typically 0V. Negative supply can be negative as long as 2.8V =< (V+ - V-) =< 5.25V still holds.", 7 ~{SHDN} (in) "When S\H\D\N\ is floating or directly tied to V+ the LTC6362 is in the normal (active) operating mode. When the S\H\D\N\ pin is connected to V-, the part is disabled and draws approximately 70uA of supply current.", 8 +IN (in) "Noninverting Input of Amplifier. Valid input range is from V- to V+."

## LTC6362IMS8#TRPBF
designator U?
Single Channel, Precision, Low Power Differential Operational Amplifier / SAR ADC Driver, RRIO, 180 MHz Typical GBW, 45 V/us Typical SR, 2.8 to 5.25 V, 8-Pin SOP (MS8-8), Industrial, Pb-Free, Reel; Linear Technology Part Number: LTC6362; Manufacturer: Linear Technology; PartNumber: LTC6362IMS8#TRPBF; Channels (#): 1; GBW (MHz) Typical: 180; Is (mA) Typical: 0.9; SR (V/us) Typical: 45; Vos (mV) Typical: 0.05; Vs Max (V): 5.25; Vs Min (V): 2.8; DatasheetVersion: Rev. A; PackageVersion: Rev G; PackageReference: LT-MS8-8; PackageDescription: 8-Lead Plastic Small Outline, Body 3.9 x 4.9 mm, Pitch 1.27 mm; Supplier 1: Digi-Key; Supplier Part Number 1: LTC6362IMS8#TRPBF-ND; Supplier 2: Newark; Supplier Part Number 2: 94T1326; Packing: Reel; RoHS: Pb-Free; Type: DIFF; Mounting Technology: Surface Mount; ComponentLink1Description: Manufacturer URL; ComponentLink1URL: http://www.linear.com/; ComponentLink2Description: Datasheet; ComponentLink2URL: http://cds.linear.com/docs/en/datasheet/6362fa.pdf; ComponentLink3Description: Package Specification; ComponentLink3URL: http://cds.linear.com/docs/en/packaging/05081610_G_SO8.pdf
footprint LT-MS8-8_N (SOP, 8-Leads, Body 3x3mm, Pitch 0.65mm, IPC Medium Density)
footprint LT-MS8-8_L (SOP, 8-Leads, Body 3x3mm, Pitch 0.65mm, IPC High Density)
footprint LT-MS8-8_M (SOP, 8-Leads, Body 3x3mm, Pitch 0.65mm, IPC Low Density)
pins: 1 -IN (in) "Inverting Input of Amplifier. Valid input range is from V- to V+.", 2 VOCM (in) "Output Common Mode Reference Voltage. The voltage on this pin sets the output common mode voltage level. If left floating, an internal resistor divider develops a default voltage of 2.5V with a 5V supply.", 3 V+ (power) "Positive Power Supply. Operational supply range is 2.8V to 5.25V when V- = 0V", 4 +OUT (out) "Positive Output Pin. Output capable of swinging rail-to-rail.", 5 -OUT (out) "Negative Output Pin. Output capable of swinging rail-to-rail.", 6 V- (power) "Negative Power Supply, Typically 0V. Negative supply can be negative as long as 2.8V =< (V+ - V-) =< 5.25V still holds.", 7 ~{SHDN} (in) "When S\H\D\N\ is floating or directly tied to V+ the LTC6362 is in the normal (active) operating mode. When the S\H\D\N\ pin is connected to V-, the part is disabled and draws approximately 70uA of supply current.", 8 +IN (in) "Noninverting Input of Amplifier. Valid input range is from V- to V+."

## LTC6400CUD-8
designator U?
Single Channel, Low Noise, Low Distortion Differential ADC Driver for DC-300 MHz, 2200 MHz Typical GBW, 3810 V/us Typical SR, 2.85 to 3.5 V, 16-Pin QFN (UD-16), Commercial; Linear Technology Part Number: LTC6400-8; Manufacturer: Linear Technology; PartNumber: LTC6400CUD-8; Channels (#): 1; GBW (MHz) Typical: 2200; Is (mA) Typical: 85; SR (V/us) Typical: 3810; Vos (mV) Typical: 5; Vs Max (V): 3.5; Vs Min (V): 2.85; PackageReference: LT-UD-16; PackageDescription: 16-Lead Plastic QFN, Body 3.00 x 3.00 mm, Pitch 0.5 mm; Type: DIFF; Mounting Technology: Surface Mount; Code_JEDEC: MO-220; ComponentLink1Description: Manufacturer URL; ComponentLink1URL: http://www.linear.com/; ComponentLink2Description: Datasheet; ComponentLink2URL: http://cds.linear.com/docs/en/datasheet/64008f.pdf; ComponentLink3Description: Package Specification; ComponentLink3URL: http://cds.linear.com/docs/en/packaging/QFN_16_05-08-1691.pdf
footprint LT-UD-16_N (QFN, 16-Leads, Body 3x3mm, Pitch 0.5mm, Thermal Pad 1.45x1.45mm, IPC Medium Density)
footprint LT-UD-16_L (QFN, 16-Leads, Body 3x3mm, Pitch 0.5mm, Thermal Pad 1.45x1.45mm, IPC High Density)
footprint LT-UD-16_M (QFN, 16-Leads, Body 3x3mm, Pitch 0.5mm, Thermal Pad 1.45x1.45mm, IPC Low Density)
pins: 1 V+ (power) "Positive Power Supply (Normally tied to 3V or 3.3V). All three pins must be tied to the same voltage. Bypass each pin with 1000pF and 0.1uF capacitors as close to the pins as possible.", 2 VOCM (in) "This pin sets the output common mode voltage. A 0.1uF external bypass capacitor is recommended.", 3 V+ (power) "Positive Power Supply (Normally tied to 3V or 3.3V). All three pins must be tied to the same voltage. Bypass each pin with 1000pF and 0.1uF capacitors as close to the pins as possible.", 4 V- (power) "Negative Power Supply. All four pins must be connected to the same voltage/ground.", 5 -OUT (out) "Unfiltered Outputs. These pins have 12.5ohm series resistors.", 6 -OUTF (out) "Filtered Outputs. These pins have 50ohm series resistors and a 1.7pF shunt capacitance.", 7 +OUTF (out) "Filtered Outputs. These pins have 50ohm series resistors and a 1.7pF shunt capacitance.", 8 +OUT (out) "Unfiltered Outputs. These pins have 12.5ohm series resistors.", 9 V- (power) "Negative Power Supply. All four pins must be connected to the same voltage/ground.", 10 V+ (power) "Positive Power Supply (Normally tied to 3V or 3.3V). All three pins must be tied to the same voltage. Bypass each pin with 1000pF and 0.1uF capacitors as close to the pins as possible.", 11 ~{ENABLE} (in) "This pin is a logic input referenced to V-. If low, the part is enabled. If high, the part is disabled and draws approximately 1mA supply current.", 12 V- (power) "Negative Power Supply. All four pins must be connected to the same voltage/ground.", 13 +IN (in) "Positive Input. Pins 13 and 14 are internally shorted together.", 14 +IN (in) "Positive Input. Pins 13 and 14 are internally shorted together.", 15 -IN (in) "Negative Input. Pins 15 and 16 are internally shorted together.", 16 -IN (in) "Negative Input. Pins 15 and 16 are internally shorted together.", 17 EP (power) "The Exposed Pad must be connected to the same voltage/ground as pins 4, 9, 12."

## LTC6400CUD-8#PBF
designator U?
Single Channel, Low Noise, Low Distortion Differential ADC Driver for DC-300 MHz, 2200 MHz Typical GBW, 3810 V/us Typical SR, 2.85 to 3.5 V, 16-Pin QFN (UD-16), Commercial, Pb-Free; Linear Technology Part Number: LTC6400-8; Manufacturer: Linear Technology; PartNumber: LTC6400CUD-8#PBF; Channels (#): 1; GBW (MHz) Typical: 2200; Is (mA) Typical: 85; SR (V/us) Typical: 3810; Vos (mV) Typical: 5; Vs Max (V): 3.5; Vs Min (V): 2.85; PackageReference: LT-UD-16; PackageDescription: 16-Lead Plastic QFN, Body 3.00 x 3.00 mm, Pitch 0.5 mm; Supplier 1: Digi-Key; Supplier Part Number 1: LTC6400CUD-8#PBF-ND; Supplier 2: Newark; Supplier Part Number 2: 07P8338; RoHS: Pb-Free; Type: DIFF; Mounting Technology: Surface Mount; Code_JEDEC: MO-220; ComponentLink1Description: Manufacturer URL; ComponentLink1URL: http://www.linear.com/; ComponentLink2Description: Datasheet; ComponentLink2URL: http://cds.linear.com/docs/en/datasheet/64008f.pdf; ComponentLink3Description: Package Specification; ComponentLink3URL: http://cds.linear.com/docs/en/packaging/QFN_16_05-08-1691.pdf
footprint LT-UD-16_N (QFN, 16-Leads, Body 3x3mm, Pitch 0.5mm, Thermal Pad 1.45x1.45mm, IPC Medium Density)
footprint LT-UD-16_L (QFN, 16-Leads, Body 3x3mm, Pitch 0.5mm, Thermal Pad 1.45x1.45mm, IPC High Density)
footprint LT-UD-16_M (QFN, 16-Leads, Body 3x3mm, Pitch 0.5mm, Thermal Pad 1.45x1.45mm, IPC Low Density)
pins: 1 V+ (power) "Positive Power Supply (Normally tied to 3V or 3.3V). All three pins must be tied to the same voltage. Bypass each pin with 1000pF and 0.1uF capacitors as close to the pins as possible.", 2 VOCM (in) "This pin sets the output common mode voltage. A 0.1uF external bypass capacitor is recommended.", 3 V+ (power) "Positive Power Supply (Normally tied to 3V or 3.3V). All three pins must be tied to the same voltage. Bypass each pin with 1000pF and 0.1uF capacitors as close to the pins as possible.", 4 V- (power) "Negative Power Supply. All four pins must be connected to the same voltage/ground.", 5 -OUT (out) "Unfiltered Outputs. These pins have 12.5ohm series resistors.", 6 -OUTF (out) "Filtered Outputs. These pins have 50ohm series resistors and a 1.7pF shunt capacitance.", 7 +OUTF (out) "Filtered Outputs. These pins have 50ohm series resistors and a 1.7pF shunt capacitance.", 8 +OUT (out) "Unfiltered Outputs. These pins have 12.5ohm series resistors.", 9 V- (power) "Negative Power Supply. All four pins must be connected to the same voltage/ground.", 10 V+ (power) "Positive Power Supply (Normally tied to 3V or 3.3V). All three pins must be tied to the same voltage. Bypass each pin with 1000pF and 0.1uF capacitors as close to the pins as possible.", 11 ~{ENABLE} (in) "This pin is a logic input referenced to V-. If low, the part is enabled. If high, the part is disabled and draws approximately 1mA supply current.", 12 V- (power) "Negative Power Supply. All four pins must be connected to the same voltage/ground.", 13 +IN (in) "Positive Input. Pins 13 and 14 are internally shorted together.", 14 +IN (in) "Positive Input. Pins 13 and 14 are internally shorted together.", 15 -IN (in) "Negative Input. Pins 15 and 16 are internally shorted together.", 16 -IN (in) "Negative Input. Pins 15 and 16 are internally shorted together.", 17 EP (power) "The Exposed Pad must be connected to the same voltage/ground as pins 4, 9, 12."

## LTC6400CUD-8#TR
designator U?
Single Channel, Low Noise, Low Distortion Differential ADC Driver for DC-300 MHz, 2200 MHz Typical GBW, 3810 V/us Typical SR, 2.85 to 3.5 V, 16-Pin QFN (UD-16), Commercial, Reel; Linear Technology Part Number: LTC6400-8; Manufacturer: Linear Technology; PartNumber: LTC6400CUD-8#TR; Channels (#): 1; GBW (MHz) Typical: 2200; Is (mA) Typical: 85; SR (V/us) Typical: 3810; Vos (mV) Typical: 5; Vs Max (V): 3.5; Vs Min (V): 2.85; PackageReference: LT-UD-16; PackageDescription: 16-Lead Plastic QFN, Body 3.00 x 3.00 mm, Pitch 0.5 mm; Supplier 1: Newark; Supplier Part Number 1: 07P8339; Packing: Reel; Type: DIFF; Mounting Technology: Surface Mount; Code_JEDEC: MO-220; ComponentLink1Description: Manufacturer URL; ComponentLink1URL: http://www.linear.com/; ComponentLink2Description: Datasheet; ComponentLink2URL: http://cds.linear.com/docs/en/datasheet/64008f.pdf; ComponentLink3Description: Package Specification; ComponentLink3URL: http://cds.linear.com/docs/en/packaging/QFN_16_05-08-1691.pdf
footprint LT-UD-16_N (QFN, 16-Leads, Body 3x3mm, Pitch 0.5mm, Thermal Pad 1.45x1.45mm, IPC Medium Density)
footprint LT-UD-16_L (QFN, 16-Leads, Body 3x3mm, Pitch 0.5mm, Thermal Pad 1.45x1.45mm, IPC High Density)
footprint LT-UD-16_M (QFN, 16-Leads, Body 3x3mm, Pitch 0.5mm, Thermal Pad 1.45x1.45mm, IPC Low Density)
pins: 1 V+ (power) "Positive Power Supply (Normally tied to 3V or 3.3V). All three pins must be tied to the same voltage. Bypass each pin with 1000pF and 0.1uF capacitors as close to the pins as possible.", 2 VOCM (in) "This pin sets the output common mode voltage. A 0.1uF external bypass capacitor is recommended.", 3 V+ (power) "Positive Power Supply (Normally tied to 3V or 3.3V). All three pins must be tied to the same voltage. Bypass each pin with 1000pF and 0.1uF capacitors as close to the pins as possible.", 4 V- (power) "Negative Power Supply. All four pins must be connected to the same voltage/ground.", 5 -OUT (out) "Unfiltered Outputs. These pins have 12.5ohm series resistors.", 6 -OUTF (out) "Filtered Outputs. These pins have 50ohm series resistors and a 1.7pF shunt capacitance.", 7 +OUTF (out) "Filtered Outputs. These pins have 50ohm series resistors and a 1.7pF shunt capacitance.", 8 +OUT (out) "Unfiltered Outputs. These pins have 12.5ohm series resistors.", 9 V- (power) "Negative Power Supply. All four pins must be connected to the same voltage/ground.", 10 V+ (power) "Positive Power Supply (Normally tied to 3V or 3.3V). All three pins must be tied to the same voltage. Bypass each pin with 1000pF and 0.1uF capacitors as close to the pins as possible.", 11 ~{ENABLE} (in) "This pin is a logic input referenced to V-. If low, the part is enabled. If high, the part is disabled and draws approximately 1mA supply current.", 12 V- (power) "Negative Power Supply. All four pins must be connected to the same voltage/ground.", 13 +IN (in) "Positive Input. Pins 13 and 14 are internally shorted together.", 14 +IN (in) "Positive Input. Pins 13 and 14 are internally shorted together.", 15 -IN (in) "Negative Input. Pins 15 and 16 are internally shorted together.", 16 -IN (in) "Negative Input. Pins 15 and 16 are internally shorted together.", 17 EP (power) "The Exposed Pad must be connected to the same voltage/ground as pins 4, 9, 12."

## LTC6400CUD-8#TRPBF
designator U?
Single Channel, Low Noise, Low Distortion Differential ADC Driver for DC-300 MHz, 2200 MHz Typical GBW, 3810 V/us Typical SR, 2.85 to 3.5 V, 16-Pin QFN (UD-16), Commercial, Pb-Free, Reel; Linear Technology Part Number: LTC6400-8; Manufacturer: Linear Technology; PartNumber: LTC6400CUD-8#TRPBF; Channels (#): 1; GBW (MHz) Typical: 2200; Is (mA) Typical: 85; SR (V/us) Typical: 3810; Vos (mV) Typical: 5; Vs Max (V): 3.5; Vs Min (V): 2.85; PackageReference: LT-UD-16; PackageDescription: 16-Lead Plastic QFN, Body 3.00 x 3.00 mm, Pitch 0.5 mm; Supplier 1: Digi-Key; Supplier Part Number 1: LTC6400CUD-8#TRPBF-ND; Supplier 2: Newark; Supplier Part Number 2: 07P8340; Packing: Reel; RoHS: Pb-Free; Type: DIFF; Mounting Technology: Surface Mount; Code_JEDEC: MO-220; ComponentLink1Description: Manufacturer URL; ComponentLink1URL: http://www.linear.com/; ComponentLink2Description: Datasheet; ComponentLink2URL: http://cds.linear.com/docs/en/datasheet/64008f.pdf; ComponentLink3Description: Package Specification; ComponentLink3URL: http://cds.linear.com/docs/en/packaging/QFN_16_05-08-1691.pdf
footprint LT-UD-16_N (QFN, 16-Leads, Body 3x3mm, Pitch 0.5mm, Thermal Pad 1.45x1.45mm, IPC Medium Density)
footprint LT-UD-16_L (QFN, 16-Leads, Body 3x3mm, Pitch 0.5mm, Thermal Pad 1.45x1.45mm, IPC High Density)
footprint LT-UD-16_M (QFN, 16-Leads, Body 3x3mm, Pitch 0.5mm, Thermal Pad 1.45x1.45mm, IPC Low Density)
pins: 1 V+ (power) "Positive Power Supply (Normally tied to 3V or 3.3V). All three pins must be tied to the same voltage. Bypass each pin with 1000pF and 0.1uF capacitors as close to the pins as possible.", 2 VOCM (in) "This pin sets the output common mode voltage. A 0.1uF external bypass capacitor is recommended.", 3 V+ (power) "Positive Power Supply (Normally tied to 3V or 3.3V). All three pins must be tied to the same voltage. Bypass each pin with 1000pF and 0.1uF capacitors as close to the pins as possible.", 4 V- (power) "Negative Power Supply. All four pins must be connected to the same voltage/ground.", 5 -OUT (out) "Unfiltered Outputs. These pins have 12.5ohm series resistors.", 6 -OUTF (out) "Filtered Outputs. These pins have 50ohm series resistors and a 1.7pF shunt capacitance.", 7 +OUTF (out) "Filtered Outputs. These pins have 50ohm series resistors and a 1.7pF shunt capacitance.", 8 +OUT (out) "Unfiltered Outputs. These pins have 12.5ohm series resistors.", 9 V- (power) "Negative Power Supply. All four pins must be connected to the same voltage/ground.", 10 V+ (power) "Positive Power Supply (Normally tied to 3V or 3.3V). All three pins must be tied to the same voltage. Bypass each pin with 1000pF and 0.1uF capacitors as close to the pins as possible.", 11 ~{ENABLE} (in) "This pin is a logic input referenced to V-. If low, the part is enabled. If high, the part is disabled and draws approximately 1mA supply current.", 12 V- (power) "Negative Power Supply. All four pins must be connected to the same voltage/ground.", 13 +IN (in) "Positive Input. Pins 13 and 14 are internally shorted together.", 14 +IN (in) "Positive Input. Pins 13 and 14 are internally shorted together.", 15 -IN (in) "Negative Input. Pins 15 and 16 are internally shorted together.", 16 -IN (in) "Negative Input. Pins 15 and 16 are internally shorted together.", 17 EP (power) "The Exposed Pad must be connected to the same voltage/ground as pins 4, 9, 12."

## LTC6400CUD-14
designator U?
Single Channel, Low Noise, Low Distortion Differential ADC Driver for 300 MHz IF, 1860 MHz Typical GBW, 4800 V/us Typical SR, 2.85 to 3.5 V, 16-Pin QFN (UD-16), Commercial; Linear Technology Part Number: LTC6400-14; Manufacturer: Linear Technology; PartNumber: LTC6400CUD-14; Channels (#): 1; GBW (MHz) Typical: 1860; Is (mA) Typical: 85; SR (V/us) Typical: 4800; Vos (mV) Typical: 3; Vs Max (V): 3.5; Vs Min (V): 2.85; DatasheetVersion: Rev. B; PackageReference: LT-UD-16; PackageDescription: 16-Lead Plastic QFN, Body 3.00 x 3.00 mm, Pitch 0.5 mm; Supplier 1: Newark; Supplier Part Number 1: 95M6519; Type: DIFF; Mounting Technology: Surface Mount; Code_JEDEC: MO-220; ComponentLink1Description: Manufacturer URL; ComponentLink1URL: http://www.linear.com/; ComponentLink2Description: Datasheet; ComponentLink2URL: http://cds.linear.com/docs/en/datasheet/640014fb.pdf; ComponentLink3Description: Package Specification; ComponentLink3URL: http://cds.linear.com/docs/en/packaging/QFN_16_05-08-1691.pdf
footprint LT-UD-16_N (QFN, 16-Leads, Body 3x3mm, Pitch 0.5mm, Thermal Pad 1.45x1.45mm, IPC Medium Density)
footprint LT-UD-16_L (QFN, 16-Leads, Body 3x3mm, Pitch 0.5mm, Thermal Pad 1.45x1.45mm, IPC High Density)
footprint LT-UD-16_M (QFN, 16-Leads, Body 3x3mm, Pitch 0.5mm, Thermal Pad 1.45x1.45mm, IPC Low Density)
pins: 1 V+ (power) "Positive Power Supply (Normally tied to 3V or 3.3V). All three pins must be tied to the same voltage. Bypass each pin with 1000pF and 0.1uF capacitors as close to the pins as possible.", 2 VOCM (in) "This pin sets the output common mode voltage. A 0.1uF external bypass capacitor is recommended.", 3 V+ (power) "Positive Power Supply (Normally tied to 3V or 3.3V). All three pins must be tied to the same voltage. Bypass each pin with 1000pF and 0.1uF capacitors as close to the pins as possible.", 4 V- (power) "Negative Power Supply. All four pins must be connected to the same voltage/ground.", 5 -OUT (out) "Unfiltered Outputs. These pins have 12.5ohm series resistors.", 6 -OUTF (out) "Filtered Outputs. These pins have 50ohm series resistors and a 1.7pF shunt capacitance.", 7 +OUTF (out) "Filtered Outputs. These pins have 50ohm series resistors and a 1.7pF shunt capacitance.", 8 +OUT (out) "Unfiltered Outputs. These pins have 12.5ohm series resistors.", 9 V- (power) "Negative Power Supply. All four pins must be connected to the same voltage/ground.", 10 V+ (power) "Positive Power Supply (Normally tied to 3V or 3.3V). All three pins must be tied to the same voltage. Bypass each pin with 1000pF and 0.1uF capacitors as close to the pins as possible.", 11 ~{ENABLE} (in) "This pin is a logic input referenced to V-. If low, the part is enabled. If high, the part is disabled and draws approximately 1mA supply current.", 12 V- (power) "Negative Power Supply. All four pins must be connected to the same voltage/ground.", 13 +IN (in) "Positive Input. Pins 13 and 14 are internally shorted together.", 14 +IN (in) "Positive Input. Pins 13 and 14 are internally shorted together.", 15 -IN (in) "Negative Input. Pins 15 and 16 are internally shorted together.", 16 -IN (in) "Negative Input. Pins 15 and 16 are internally shorted together.", 17 EP (power) "The Exposed Pad must be connected to the same voltage/ground as pins 4, 9, 12."